# Altium footprint library 工控板PCB.PcbLib: 51 footprints (part 3 of 4)
Each footprint in its own frame and in the unit in brackets; x right, y up, seen from the top. Pads: shape width x height; smd on the part's side, far side on the other; paste and mask are expansions set on the pad; w line width, h text height; cw(c..) or ccw(c..) is an arc to the next point about the centre after c.
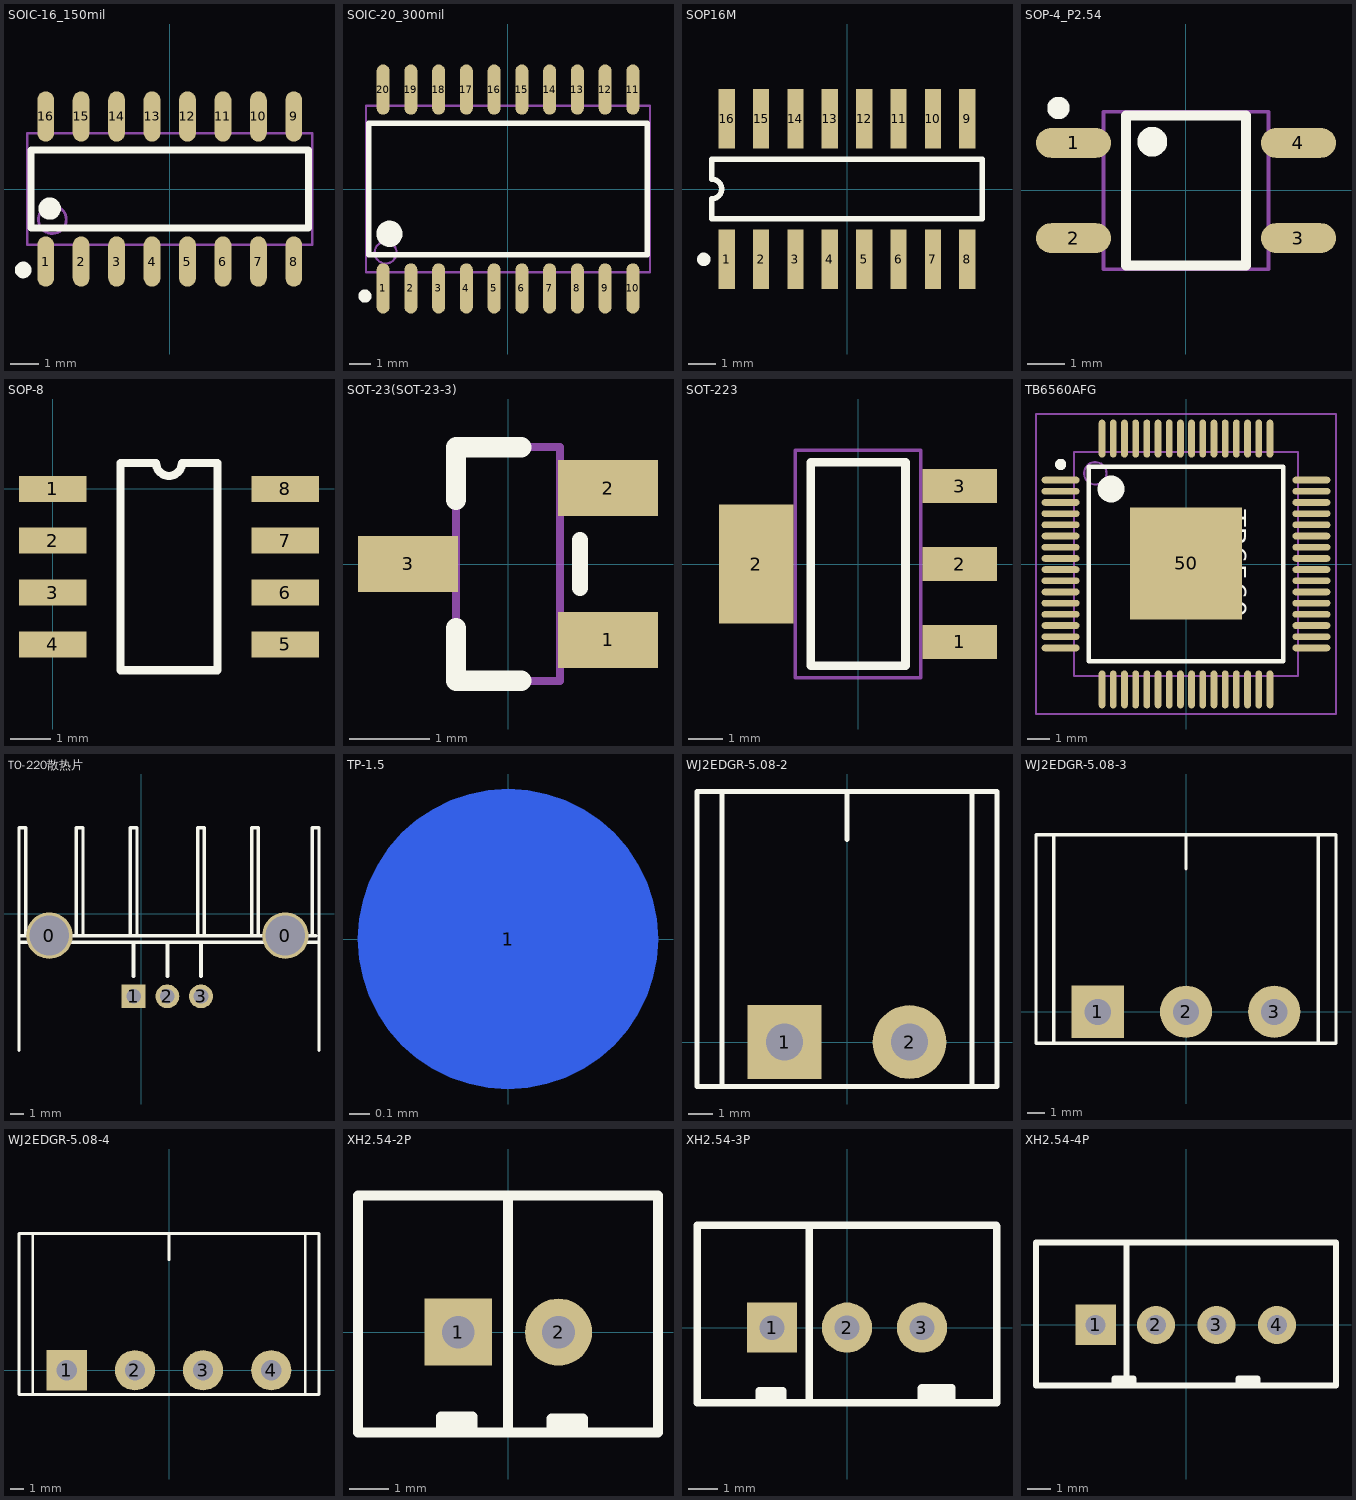
[diagram p2: the footprints below, top view; thin cyan lines are the x and y axes]

## SOIC-16_150mil [mm]
pads (16):
  oval 0.6x1.8 smd: 1(-4.445,-2.6) 2(-3.175,-2.6) 3(-1.905,-2.6) 4(-0.635,-2.6) 5(0.635,-2.6) 6(1.905,-2.6) 7(3.175,-2.6) 8(4.445,-2.6) 9(4.445,2.6) 10(3.175,2.6) 11(1.905,2.6) 12(0.635,2.6) 13(-0.635,2.6) 14(-1.905,2.6) 15(-3.175,2.6) 16(-4.445,2.6)
Top Overlay:
  circle w0.3: c-5.25,-2.9 r0.15
  circle w0.4: c-4.3,-0.7 r0.2
  lines w0.254: -4.975,-1.4 4.975,-1.4 4.975,1.4 -4.975,1.4 -4.975,-1.4
Mechanical 13:
  circle w0.1: c-4.205,-1.095 r0.5
  lines w0.1: -5.105,-1.995 5.105,-1.995 5.105,1.995 -5.105,1.995 -5.105,-1.995

## SOIC-20_300mil [mm]
pads (20):
  oval 0.6x2.3 smd: 1(-5.715,-4.55) 2(-4.445,-4.55) 3(-3.175,-4.55) 4(-1.905,-4.55) 5(-0.635,-4.55) 6(0.635,-4.55) 7(1.905,-4.55) 8(3.175,-4.55) 9(4.445,-4.55) 10(5.715,-4.55) 11(5.715,4.55) 12(4.445,4.55) 13(3.175,4.55) 14(1.905,4.55) 15(0.635,4.55) 16(-0.635,4.55) 17(-1.905,4.55) 18(-3.175,4.55) 19(-4.445,4.55) 20(-5.715,4.55)
Top Overlay:
  circle w0.3: c-6.55,-4.9 r0.15
  circle w0.6: c-5.425,-2.05 r0.3
  lines w0.254: -6.375,-3 -6.375,3 6.375,3 6.375,-3 -6.375,-3
Mechanical 13:
  circle w0.1: c-5.6,-2.91 r0.5
  lines w0.1: -6.5,-3.81 -6.5,3.81 6.5,3.81 6.5,-3.81 -6.5,-3.81

## SOP16M [mm]
pads (16):
  rect 0.6x2.2 smd: 1(-4.445,-2.6) 2(-3.175,-2.6) 3(-1.905,-2.6) 4(-0.635,-2.6) 5(0.635,-2.6) 6(1.905,-2.6) 7(3.175,-2.6) 8(4.445,-2.6) 9(4.445,2.6) 10(3.175,2.6) 11(1.905,2.6) 12(0.635,2.6) 13(-0.635,2.6) 14(-1.905,2.6) 15(-3.175,2.6) 16(-4.445,2.6)
Top Overlay:
  circle w0.25: c-5.295,-2.6 r0.125
  lines w0.2: -5,-1.1 -5,-0.367 ccw(c-5,0) -5,0.367 -5,1.1 5,1.1 5,-1.1 -5,-1.1

## SOP-4_P2.54 [mm]
pads (4):
  oval 2x0.8 smd: 1(-3,1.27) 2(-3,-1.27) 3(3,-1.27) 4(3,1.27)
Top Overlay:
  circle w0.4: c-0.9,1.3 r0.2
  circle w0.3: c-3.4,2.2 r0.15
  lines w0.254: -1.6,-2 1.6,-2 1.6,2 -1.6,2 -1.6,-2
Mechanical 13:
  lines w0.1: -2.2,-2.1 2.2,-2.1 2.2,2.1 -2.2,2.1 -2.2,-2.1

## SOP-8 [mil]
pads (8):
  rect 65x25 smd: 1(0,0) 2(0,-50) 3(0,-100) 4(0,-150) 5(224.41,-150) 6(224.41,-100) 7(224.41,-50) 8(224.41,0)
Top Overlay:
  lines w7.87: 65.37,-175 65.37,25 99.7,25 ccw(c112.2,25) 124.7,25 159.04,25 159.04,-175 65.37,-175

## SOT-23(SOT-23-3) [mm]
pads (3):
  rect 1.25x0.7 smd: 1(1.25,-0.95) 2(1.25,0.95) 3(-1.25,0)
Top Overlay:
  lines w0.2: 0.9,-0.3 0.9,0.3
  lines w0.254: -0.65,-0.8 -0.65,-1.46 0.165,-1.46 ; 0.165,1.46 -0.65,1.46 ; -0.65,0.8 -0.65,1.46 ; -0.65,0.8 -0.65,1.46 ; -0.65,0.8 -0.65,1.46
Mechanical 13:
  lines w0.1: -0.65,-1.46 -0.65,1.46 ; -0.65,-1.46 0.65,-1.46 ; -0.65,-1.46 0.65,-1.46 ; -0.65,-1.46 -0.65,1.46 ; -0.65,-1.46 0.65,-1.46 ; -0.65,-1.46 -0.65,1.46 ; -0.65,1.46 0.65,1.46 ; -0.65,1.46 0.65,1.46 ; -0.65,1.46 0.65,1.46 ; 0.65,-1.46 0.65,1.46 ; 0.65,-1.46 0.65,1.46 ; 0.65,-1.46 0.65,1.46
3D body "SOT-23.step": height 1.3, standoff 0, extent -1.5,-1.5 1.5,1.5

## SOT-223 [mm]
pads (4):
  rect 2.2x1 smd: 1(3,-2.3) 2(3,0) 3(3,2.3)
  rect 2.2x3.5 smd: 2(-3,0)
Top Overlay:
  lines w0.254: -1.4,-3 -1.4,3 1.4,3 1.4,-3 -1.4,-3
Mechanical 13:
  lines w0.1: -1.85,-3.35 1.85,-3.35 1.85,3.35 -1.85,3.35 -1.85,-3.35
3D body "TO-223.STEP": height 1.64, standoff -0.04, extent -3.49,-3.242 3.49,3.243

## TB6560AFG [mm] "TSQFP, 64-Leads, Body 12.2x12.2mm (max), Pitch 0.50mm, IPC Medium Density"
height 1.26
pads (65):
  oval 1.7x0.3 smd: 1(-5.6,3.75) 2(-5.6,3.25) 3(-5.6,2.75) 4(-5.6,2.25) 5(-5.6,1.75) 6(-5.6,1.25) 7(-5.6,0.75) 8(-5.6,0.25) 9(-5.6,-0.25) 10(-5.6,-0.75) 11(-5.6,-1.25) 12(-5.6,-1.75) 13(-5.6,-2.25) 14(-5.6,-2.75) 15(-5.6,-3.25) 16(-5.6,-3.75) 33(5.6,-3.75) 34(5.6,-3.25) 35(5.6,-2.75) 36(5.6,-2.25) 37(5.6,-1.75) 38(5.6,-1.25) 39(5.6,-0.75) 40(5.6,-0.25) 41(5.6,0.25) 42(5.6,0.75) 43(5.6,1.25) 44(5.6,1.75) 45(5.6,2.25) 46(5.6,2.75) 47(5.6,3.25) 48(5.6,3.75)
  oval 0.3x1.7 smd: 17(-3.75,-5.6) 18(-3.25,-5.6) 19(-2.75,-5.6) 20(-2.25,-5.6) 21(-1.75,-5.6) 22(-1.25,-5.6) 23(-0.75,-5.6) 24(-0.25,-5.6) 25(0.25,-5.6) 26(0.75,-5.6) 27(1.25,-5.6) 28(1.75,-5.6) 29(2.25,-5.6) 30(2.75,-5.6) 31(3.25,-5.6) 32(3.75,-5.6) 49(3.75,5.6) 50(3.25,5.6) 51(2.75,5.6) 52(2.25,5.6) 53(1.75,5.6) 54(1.25,5.6) 55(0.75,5.6) 56(0.25,5.6) 57(-0.25,5.6) 58(-0.75,5.6) 59(-1.25,5.6) 60(-1.75,5.6) 61(-2.25,5.6) 62(-2.75,5.6) 63(-3.25,5.6) 64(-3.75,5.6)
  rect 5x5 smd: 50(0,0.025)
Top Overlay:
  circle w0.6: c-3.35,3.35 r0.3
  circle w0.25: c-5.6,4.45 r0.125
  lines w0.2: -4.35,-4.35 4.35,-4.35 4.35,4.35 -4.35,4.35 -4.35,-4.35
  text "TB6560" at 1.778,2.413 h0.91
Mechanical 13:
  circle w0.1: c-4.05,4.05 r0.5
  lines w0.1: -5,-5 5,-5 5,5 -5,5 -5,-5
Mechanical 15:
  lines w0.1: -0.5,0 0.5,0 ; 0,-0.5 0,0.5 ; -6.7,-6.7 6.7,-6.7 6.7,6.7 -6.7,6.7 -6.7,-6.7
3D body: height 1.26, standoff 0.25, extent -5,-5 5,5

## TO-220散热片 [mm]
pads (5):
  round 3.5 hole 3: 0(-6.937,-1.654) 0(10.843,-1.654)
  rect 1.8x1.8 hole 1.1: 1(-0.587,-6.226)
  round 1.8 hole 1.1: 2(1.953,-6.226) 3(4.493,-6.226)
Top Overlay:
  lines w0.254: -9.223,-10.29 -9.223,-2.162 ; -8.715,-1.654 -8.715,6.474 -9.223,6.474 -9.223,-1.654 ; -4.905,-1.654 -4.905,6.474 -4.397,6.474 -4.397,-1.654 ; -0.841,-1.654 -0.841,6.474 -0.333,6.474 -0.333,-1.654 ; 4.239,-1.654 4.239,6.474 4.493,6.474 4.747,6.474 4.747,-1.654 ; 8.303,-1.654 8.303,6.474 8.811,6.474 8.811,-1.654 ; 12.875,-1.654 12.875,6.474 13.383,6.474 13.383,-1.654 13.383,-2.162 ; 13.129,-1.654 -9.223,-1.654 ; 13.383,-10.29 13.383,-2.162 ; -9.223,-2.162 -9.223,-1.654 ; -9.223,-2.162 13.383,-2.162
  lines w0.305: -0.587,-4.702 -0.587,-2.162 ; 1.953,-4.702 1.953,-2.162 ; 4.493,-4.702 4.493,-2.162

## TP-1.5 [mm]
pads (1):
  round 1.5 smd far side: 1(0,0)

## WJ2EDGR-5.08-2 [mm]
pads (2):
  rect 3x3 hole 1.5: 1(-2.54,0)
  round 3 hole 1.5: 2(2.54,0)
Top Overlay:
  lines w0.2: -5.08,10.16 -5.105,10.185 -6.096,10.185 -6.096,-1.803 -5.08,-1.803 ; 0,8.23 0,10.185 ; 5.08,-1.778 5.105,-1.803 6.096,-1.803 6.096,10.185 5.08,10.185 ; -5.08,-1.803 -5.08,10.185 ; -5.08,-1.803 5.08,-1.803 5.08,10.185 ; -5.08,-1.803 -5.08,10.185 ; -5.08,10.185 5.08,10.185
3D body "User Library-MSTB 2,5-2-G-5,08 1770711.STEP": height 8.6, standoff -3.5, extent -5.08,-1.963 5.08,10.04

## WJ2EDGR-5.08-3 [mm]
pads (3):
  rect 3x3 hole 1.5: 1(-5.08,0)
  round 3 hole 1.5: 2(0,0) 3(5.08,0)
Top Overlay:
  lines w0.2: -7.62,10.16 -7.645,10.185 -8.636,10.185 -8.636,-1.803 -7.62,-1.803 ; 0,8.23 0,10.185 ; 8.636,10.16 8.611,10.185 7.62,10.185 ; 8.636,10.185 8.636,-1.803 7.62,-1.803 ; -7.62,-1.803 -7.62,10.185 ; -7.62,-1.803 -7.62,10.185 ; -7.62,-1.803 7.62,-1.803 ; -7.62,10.185 7.62,10.185 ; 7.62,-1.803 7.62,10.185 ; 7.62,-1.803 7.62,10.185
3D body "User Library-MSTB 2,5-3-G-5,08 1759020.STEP": height 8.6, standoff -3.5, extent -7.62,-2.096 7.62,9.906

## WJ2EDGR-5.08-4 [mm]
pads (4):
  rect 3x3 hole 1.5: 1(-7.62,0)
  round 3 hole 1.5: 2(-2.54,0) 3(2.54,0) 4(7.62,0)
Top Overlay:
  lines w0.2: -10.16,10.16 -10.185,10.185 -11.176,10.185 -11.176,-1.803 -10.16,-1.803 ; 0,8.23 0,10.185 ; 11.176,10.16 11.151,10.185 10.16,10.185 ; 11.176,10.185 11.176,-1.803 10.16,-1.803 ; -10.16,-1.803 -10.16,10.185 ; -10.16,-1.803 10.16,-1.803 ; -10.16,-1.803 -10.16,10.185 ; -10.16,10.185 10.16,10.185 ; 10.16,-1.803 10.16,10.185 ; 10.16,-1.803 10.16,10.185
3D body "User Library-MSTB 2,5-4-G 1754478.STEP": height 8.6, standoff -3.5, extent -10,-2.032 10,9.968

## XH2.54-2P [mm]
pads (2):
  rect 1.7x1.7 hole 0.83: 1(-1.27,0)
  round 1.7 hole 0.83: 2(1.27,0)
Top Overlay:
  lines w0.254: -1.71,-2.44 -1.71,-2.14 -0.91,-2.14 -0.91,-2.44 ; -1.66,-2.29 -0.91,-2.29 ; -0.01,-2.39 -0.01,3.46 ; 1.09,-2.49 1.09,-2.19 1.89,-2.19 1.89,-2.49 ; 1.09,-2.34 1.89,-2.34 ; -3.81,-2.54 3.79,-2.54 3.79,3.46 -3.81,3.46 -3.81,-2.54
3D body "XH2.54-2P.STEP": height 7, standoff -3.4, extent -3.717,-2.367 3.683,3.383

## XH2.54-3P [mm]
pads (3):
  rect 1.7x1.7 hole 0.83: 1(-2.54,0)
  round 1.7 hole 0.83: 2(0,0) 3(2.54,0)
Top Overlay:
  lines w0.254: -2.98,-2.44 -2.98,-2.14 -2.18,-2.14 -2.18,-2.44 ; -2.93,-2.29 -2.18,-2.29 ; -1.28,-2.39 -1.28,3.46 ; 2.667,-2.286 3.429,-2.286 3.556,-2.413 3.556,-2.032 2.54,-2.032 2.52,-2.052 2.52,-2.54 ; 2.52,-2.54 5.08,-2.54 5.08,3.429 5.049,3.46 2.52,3.46 -5.08,3.46 -5.08,-2.54 2.52,-2.54
3D body "XH2.54-3P.STEP": height 7, standoff -3.5, extent -4.95,-2.35 4.95,3.4

## XH2.54-4P [mm]
height 1.99
pads (4):
  rect 1.7x1.7 hole 0.83: 1(-3.81,0)
  round 1.6 hole 0.83: 2(-1.27,0) 3(1.27,0) 4(3.81,0)
Top Overlay:
  lines w0.254: -3.01,-2.54 -3.01,-2.24 -2.21,-2.24 -2.21,-2.54 ; -2.96,-2.39 -2.21,-2.39 ; -2.51,-2.39 -2.51,3.46 ; 2.19,-2.54 2.19,-2.24 2.99,-2.24 2.99,-2.54 ; 2.19,-2.39 2.99,-2.39 ; -6.31,-2.54 -6.31,3.46 6.29,3.46 6.29,-2.54 -6.31,-2.54
3D body "XH2.54-4P.STEP": height 7, standoff -3.4, extent -6.18,-2.64 6.22,3.46